# EAGLE library part LPC1343FBD48 (library NXP)
The LPC13xx are ARM Cortex-M3 based microcontrollers for embedded applications featuring a high level of integration and low power consumption.
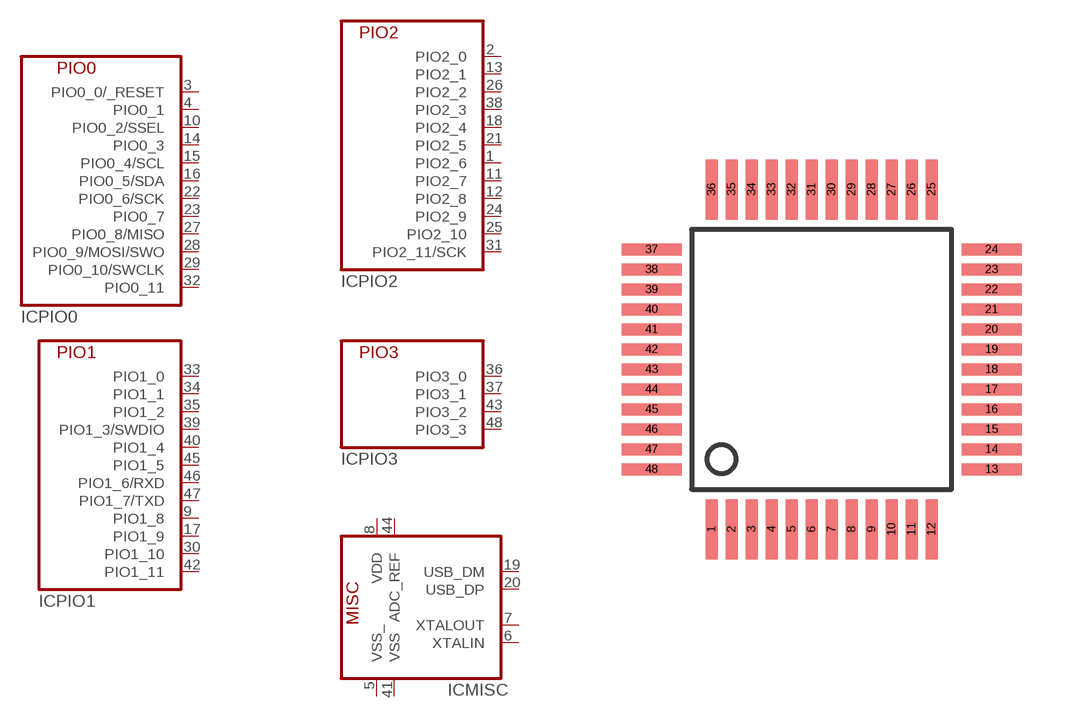
[diagram p0: symbol with the pads of LQFP48; footprint LQFP48]

Designator prefix IC; gates PIO0=LPC1343_PIO0 PIO1=LCP1343_PIO1 PIO2=LPC1343_PIO2 PIO3=LPC1343_PIO3 MISC=LPC1343_MISC

## LPC1343FBD48  [LQFP48]
1  PIO2:PIO2_6
2  PIO2:PIO2_0
3  PIO0:PIO0_0/_RESET
4  PIO0:PIO0_1
5  MISC:VSS_  in
6  MISC:XTALIN  in
7  MISC:XTALOUT  out
8  MISC:VDD  in
9  PIO1:PIO1_8
10  PIO0:PIO0_2/SSEL
11  PIO2:PIO2_7
12  PIO2:PIO2_8
13  PIO2:PIO2_1
14  PIO0:PIO0_3
15  PIO0:PIO0_4/SCL
16  PIO0:PIO0_5/SDA
17  PIO1:PIO1_9
18  PIO2:PIO2_4
19  MISC:USB_DM
20  MISC:USB_DP
21  PIO2:PIO2_5
22  PIO0:PIO0_6/SCK
23  PIO0:PIO0_7
24  PIO2:PIO2_9
25  PIO2:PIO2_10
26  PIO2:PIO2_2
27  PIO0:PIO0_8/MISO
28  PIO0:PIO0_9/MOSI/SWO
29  PIO0:PIO0_10/SWCLK
30  PIO1:PIO1_10
31  PIO2:PIO2_11/SCK
32  PIO0:PIO0_11
33  PIO1:PIO1_0
34  PIO1:PIO1_1
35  PIO1:PIO1_2
36  PIO3:PIO3_0
37  PIO3:PIO3_1
38  PIO2:PIO2_3
39  PIO1:PIO1_3/SWDIO
40  PIO1:PIO1_4
41  MISC:VSS  in
42  PIO1:PIO1_11
43  PIO3:PIO3_2
44  MISC:ADC_REF  in
45  PIO1:PIO1_5
46  PIO1:PIO1_6/RXD
47  PIO1:PIO1_7/TXD
48  PIO3:PIO3_3

## Footprint LQFP48 (pad centres in mm)
LQFP48: plastic low profile quad flat package; 48 leads; body 7 x 7 x 1.4 mm.
smd 0.3 x 1.5: 1 0.25,-1.25; 2 0.75,-1.25; 3 1.25,-1.25; 4 1.75,-1.25; 5 2.25,-1.25; 6 2.75,-1.25; 7 3.25,-1.25; 8 3.75,-1.25; 9 4.25,-1.25; 10 4.75,-1.25; 11 5.25,-1.25; 12 5.75,-1.25; 25 5.75,7.25; 26 5.25,7.25; 27 4.75,7.25; 28 4.25,7.25; 29 3.75,7.25; 30 3.25,7.25; 31 2.75,7.25; 32 2.25,7.25; 33 1.75,7.25; 34 1.25,7.25; 35 0.75,7.25; 36 0.25,7.25
smd 1.5 x 0.3: 13 7.25,0.25; 14 7.25,0.75; 15 7.25,1.25; 16 7.25,1.75; 17 7.25,2.25; 18 7.25,2.75; 19 7.25,3.25; 20 7.25,3.75; 21 7.25,4.25; 22 7.25,4.75; 23 7.25,5.25; 24 7.25,5.75; 37 -1.25,5.75; 38 -1.25,5.25; 39 -1.25,4.75; 40 -1.25,4.25; 41 -1.25,3.75; 42 -1.25,3.25; 43 -1.25,2.75; 44 -1.25,2.25; 45 -1.25,1.75; 46 -1.25,1.25; 47 -1.25,0.75; 48 -1.25,0.25